# Altium footprint library Connector_USB.PcbLib: 76 footprints (part 3 of 5)
Each footprint in its own frame and in the unit in brackets; x right, y up, seen from the top. Pads: shape width x height; smd on the part's side, far side on the other; paste and mask are expansions set on the pad; w line width, h text height; cw(c..) or ccw(c..) is an arc to the next point about the centre after c.
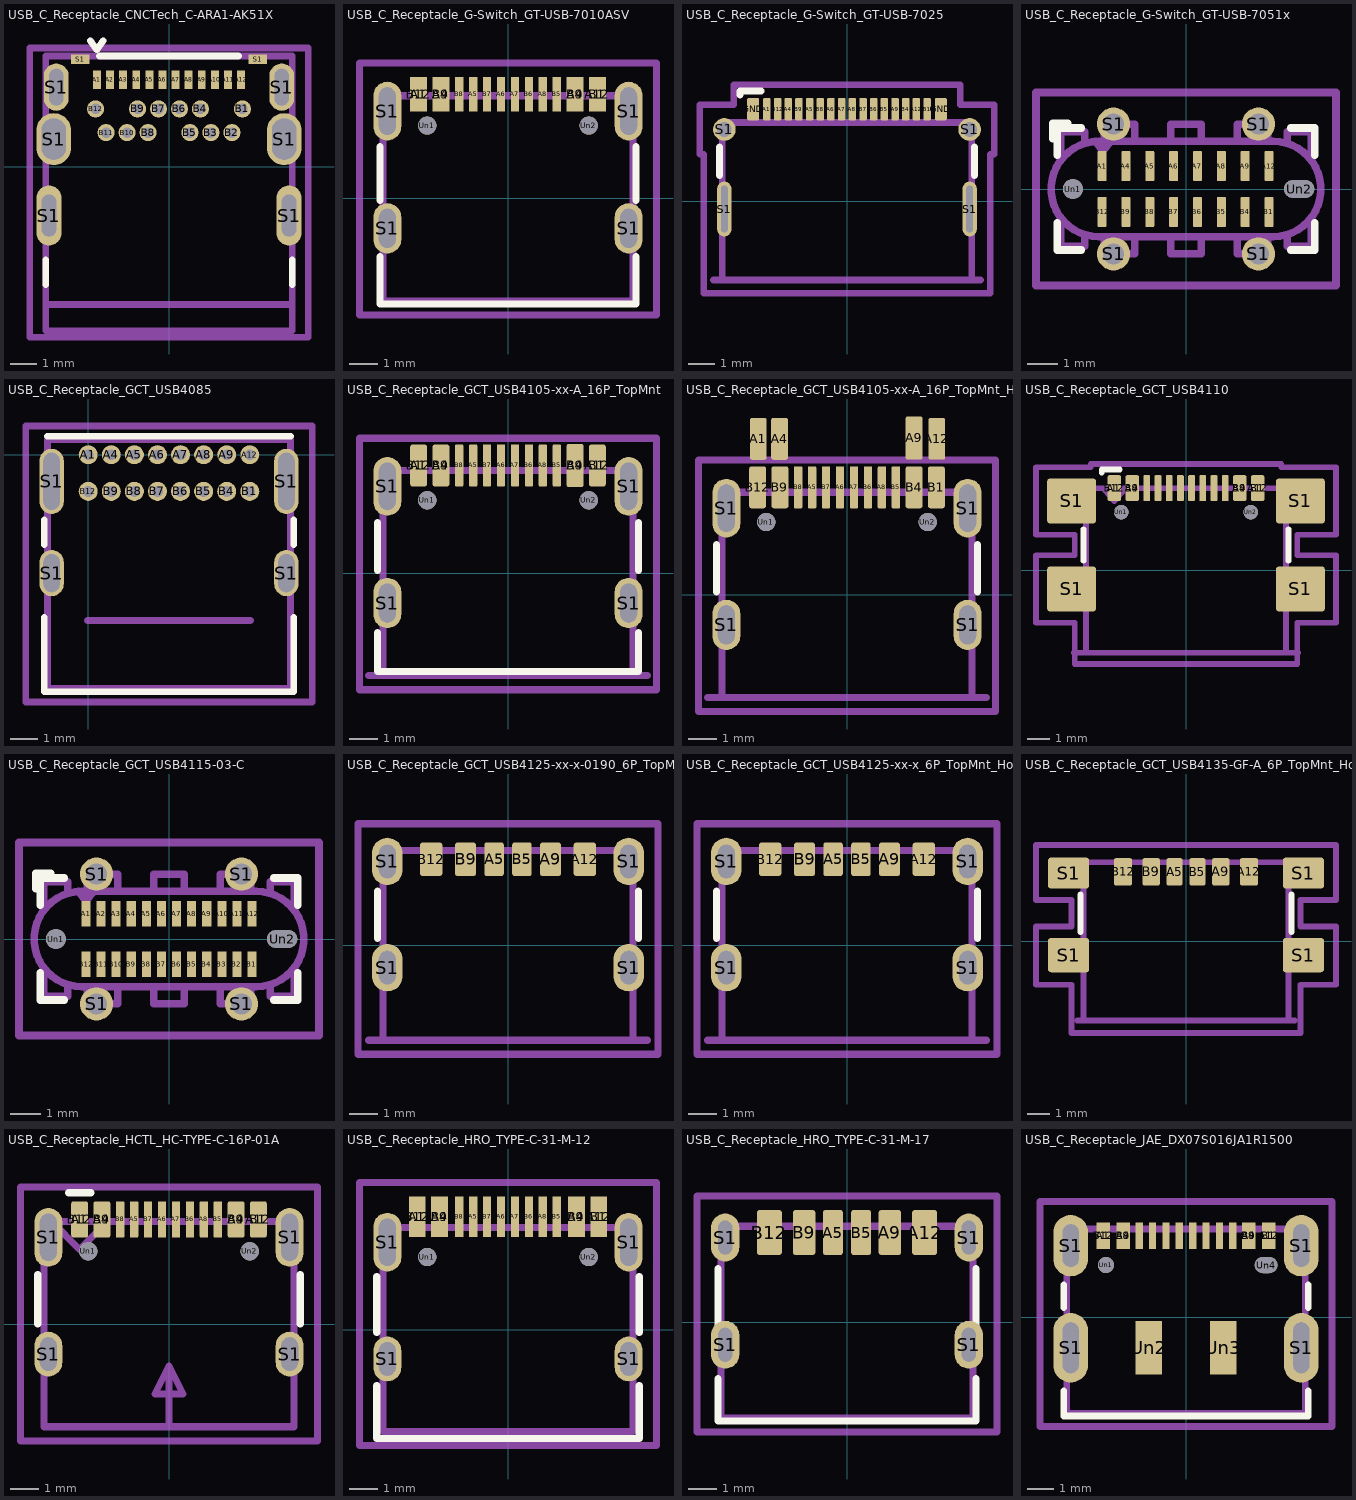
[diagram p2: the footprints below, top view; thin cyan lines are the x and y axes]

## USB_C_Receptacle_CNCTech_C-ARA1-AK51X [mm]
pads (32):
  rect 0.3x0.7 smd: A1(-2.75,3.31) A2(-2.25,3.31) A3(-1.75,3.31) A4(-1.25,3.31) A5(-0.75,3.31) A6(-0.25,3.31) A7(0.25,3.31) A8(0.75,3.31) A9(1.25,3.31) A10(1.75,3.31) A11(2.25,3.31) A12(2.75,3.31)
  round 0.65 hole 0.4: B1(2.8,2.2) B2(2.4,1.3) B3(1.6,1.3) B4(1.2,2.2) B5(0.8,1.3) B6(0.4,2.2) B7(-0.4,2.2) B8(-0.8,1.3) B9(-1.2,2.2) B10(-1.6,1.3) B11(-2.4,1.3) B12(-2.8,2.2)
  rrect100% 0.95x2.28 hole 1.6 slot 0.55 at 0 deg: S1(-4.575,-1.86) S1(4.575,-1.86)
  rrect100% 1.33x1.98 hole 1.58 slot 0.93 at 0 deg: S1(-4.39,1.05) S1(4.39,1.05)
  rrect100% 0.95x1.8 hole 1.4 slot 0.55 at 0 deg: S1(-4.295,3.03) S1(4.295,3.03)
  rect 0.7x0.35 smd: S1(-3.375,4.095) S1(3.375,4.095)
F.SilkS:
  lines w0.254: -4.7,-4.5 -4.7,-3.55 ; -3,4.8 -2.75,4.45 -2.5,4.8 ; -2.65,4.22 2.65,4.22 ; 4.7,-4.5 4.7,-3.55
Top Assembly:
  lines w0.254: -3,4.8 -2.75,4.45 -2.5,4.8 ; -4.7,-6.25 4.7,-6.25 4.7,4.22 -4.7,4.22 -4.7,-6.25
  text "'.Designator'" at -4.047,-1.84 h1
Top Courtyard:
  lines w0.254: -5.31,-6.5 5.31,-6.5 5.31,4.52 -5.31,4.52 -5.31,-6.5
Top Designator:
  text ".Designator" at -7.618,-1.358 h1.52
Dwgs.User:
  lines w0.254: -4.7,-5.25 4.7,-5.25
  text "PCB Edge" at -1.748,-5.273 h0.5

## USB_C_Receptacle_G-Switch_GT-USB-7010ASV [mm]
pads (22):
  rect 0.6x1.24 smd: A1(-3.2,3.725) A4(-2.4,3.725) A9(2.4,3.725) A12(3.2,3.725) B1(3.2,3.725) B4(2.4,3.725) B9(-2.4,3.725) B12(-3.2,3.725)
  rect 0.3x1.24 smd: A5(-1.25,3.725) A6(-0.25,3.725) A7(0.25,3.725) A8(1.25,3.725) B5(1.75,3.725) B6(0.75,3.725) B7(-0.75,3.725) B8(-1.75,3.725)
  rrect100% 1x1.8 hole 1.4 slot 0.6 at 0 deg: S1(-4.32,-1.075) S1(4.32,-1.075)
  rrect100% 1x2.1 hole 1.7 slot 0.6 at 0 deg: S1(-4.32,3.125) S1(4.32,3.125)
  round 0.65 hole 0.65: Un1(-2.89,2.605) Un2(2.89,2.605)
F.SilkS:
  lines w0.254: -4.58,-2.08 -4.58,-3.785 4.58,-3.785 4.58,-2.08 ; -4.58,-0.07 -4.58,1.85 ; 4.58,-0.07 4.58,1.85
Top Assembly:
  lines w0.254: -4.47,-3.675 4.47,-3.675 4.47,3.675 -4.47,3.675 -4.47,-3.675
  text "'.Designator'" at -4.047,-0.84 h1
Top Courtyard:
  lines w0.254: -5.32,-4.18 5.32,-4.18 5.32,4.85 -5.32,4.85 -5.32,-4.18
Top Designator:
  text ".Designator" at -7.618,-0.173 h1.52

## USB_C_Receptacle_G-Switch_GT-USB-7025 [mm]
pads (22):
  rrect25% 0.28x0.83 smd: A1(-3,3.45) A4(-2.2,3.45) A5(-1.4,3.45) A6(-0.6,3.45) A7(-0.2,3.45) A8(0.2,3.45) A9(1.8,3.45) A12(2.6,3.45) B1(3,3.45) B4(2.2,3.45) B5(1.4,3.45) B6(1,3.45) B7(0.6,3.45) B8(-1,3.45) B9(-1.8,3.45) B12(-2.6,3.45)
  rrect25% 0.45x0.83 smd: GND(-3.515,3.45) GND(3.515,3.45)
  rrect100% 0.55x2.05 hole 1.75 slot 0.25 at 0 deg: S1(-4.595,-0.29) S1(4.595,-0.29)
  round 0.85 hole 0.55: S1(-4.595,2.69) S1(4.595,2.69)
F.SilkS:
  lines w0.254: -4.78,0.97 -4.78,2.03 ; -4.01,3.98 -4.01,4.13 -3.21,4.13 ; 4.78,0.97 4.78,2.03
Top Assembly:
  lines w0.254: -4.67,-2.95 4.67,-2.95 4.67,2.95 -4.67,2.95 -4.67,-2.95
  text "'.Designator'" at -4.047,0.81 h1
Top Courtyard:
  lines w0.254: -5.52,1.76 -5.37,1.76 -5.37,-3.45 5.37,-3.45 5.37,1.76 5.52,1.76 5.52,3.62 4.24,3.62 4.24,4.37 -4.24,4.37 -4.24,3.62 -5.52,3.62 -5.52,1.76
Top Designator:
  text ".Designator" at -7.618,-0.048 h1.52
Dwgs.User:
  lines w0.254: -5,-2.95 5,-2.95
  text "PCB Edge" at -1.748,-2.783 h0.5

## USB_C_Receptacle_G-Switch_GT-USB-7051x [mm]
pads (22):
  rrect25% 0.3x1 smd: A1(-2.78,0.76) A4(-1.99,0.76) A5(-1.2,0.76) A6(-0.41,0.76) A7(0.38,0.76) A8(1.17,0.76) A9(1.96,0.76) A12(2.75,0.76) B1(2.75,-0.76) B4(1.96,-0.76) B5(1.17,-0.76) B6(0.38,-0.76) B7(-0.41,-0.76) B8(-1.2,-0.76) B9(-1.99,-0.76) B12(-2.78,-0.76)
  round 1.1 hole 0.7: S1(-2.4,-2.15) S1(-2.4,2.15) S1(2.4,-2.15) S1(2.4,2.15)
  round 0.66 hole 0.66: Un1(-3.75,0)
  rrect100% 1x0.58 hole 0.58 slot 1 at 0 deg: Un2(3.75,0)
F.SilkS:
  lines w0.254: -4.42,1.67 -4.42,2.17 -3.92,2.17 ; -4.27,-1.12 -4.27,-2.02 -3.47,-2.02 ; -4.27,1.12 -4.27,2.02 -3.47,2.02 ; 3.47,-2.02 4.27,-2.02 4.27,-1.12 ; 3.47,2.02 4.27,2.02 4.27,1.12
Top Assembly:
  lines w0.254: -4.15,-1 -4.15,-1.9 -3.35,-1.9 -3.35,-1.55 ; -4.15,1 -4.15,1.9 -3.35,1.9 -3.35,1.55 ; -3,1.58 -2.75,1.26 -2.5,1.58 ; -2.7,-1.6 -2.7,-2.15 -1.7,-2.15 -1.7,-1.6 ; -2.7,1.6 -2.7,2.15 -1.7,2.15 -1.7,1.6 ; -0.5,-1.6 -0.5,-2.15 0.5,-2.15 0.5,-1.6 ; -0.5,1.6 -0.5,2.15 0.5,2.15 0.5,1.6 ; 1.7,-1.6 1.7,-2.15 2.7,-2.15 2.7,-1.6 ; 1.7,1.6 1.7,2.15 2.7,2.15 2.7,1.6 ; 3.35,-1.55 3.35,-1.9 4.15,-1.9 4.15,-1 ; 3.35,1.55 3.35,1.9 4.15,1.9 4.15,1 ; -2.89,-1.58 cw(c-2.89,0) -2.89,1.58 2.89,1.58 cw(c2.89,0) 2.89,-1.58 -2.89,-1.58
  text "'.Designator'" at -4.047,-0.84 h1
Top Courtyard:
  lines w0.254: -4.97,-3.2 4.97,-3.2 4.97,3.2 -4.97,3.2 -4.97,-3.2
Top Designator:
  text ".Designator" at -7.618,-0.508 h1.52

## USB_C_Receptacle_GCT_USB4085 [mm]
pads (20):
  round 0.7 hole 0.4: A1(0,0) A4(0.85,0) A5(1.7,0) A6(2.55,0) A7(3.4,0) A8(4.25,0) A9(5.1,0) A12(5.95,0) B1(5.95,-1.35) B4(5.1,-1.35) B5(4.25,-1.35) B6(3.4,-1.35) B7(2.55,-1.35) B8(1.7,-1.35) B9(0.85,-1.35) B12(0,-1.35)
  rrect100% 0.9x1.7 hole 1.4 slot 0.6 at 0 deg: S1(-1.35,-4.36) S1(7.3,-4.36)
  rrect100% 0.9x2.4 hole 2.1 slot 0.6 at 0 deg: S1(-1.35,-0.98) S1(7.3,-0.98)
F.SilkS:
  lines w0.254: -1.62,-6 -1.62,-8.73 7.57,-8.73 7.57,-6 ; -1.62,-3.3 -1.62,-2.4 ; -1.5,0.68 7.45,0.68 ; 7.57,-3.3 7.57,-2.4
Top Assembly:
  lines w0.254: -0.025,-6.1 5.975,-6.1 ; -1.5,-8.61 7.45,-8.61 7.45,0.56 -1.5,0.56 -1.5,-8.61
  text "'.Designator'" at -1.072,-4.865 h1
Top Courtyard:
  lines w0.254: -2.3,-9.11 8.25,-9.11 8.25,1.06 -2.3,1.06 -2.3,-9.11
Top Designator:
  text ".Designator" at -4.643,-4.533 h1.52
Dwgs.User:
  text "PCB Edge" at 1.227,-6.533 h0.5

## USB_C_Receptacle_GCT_USB4105-xx-A_16P_TopMnt [mm]
pads (22):
  rrect25% 0.6x1.5 smd: A1(-3.2,3.85) A4(-2.4,3.85) A12(3.2,3.85) B1(3.2,3.85) B4(2.4,3.85) B9(-2.4,3.85) B12(-3.2,3.85)
  rrect25% 0.3x1.5 smd: A5(-1.25,3.85) A6(-0.25,3.85) A7(0.25,3.85) A8(1.25,3.85) B5(1.75,3.85) B6(0.75,3.85) B7(-0.75,3.85) B8(-1.75,3.85)
  rrect25% 0.6x1.55 smd: A9(2.4,3.85)
  rrect100% 1x1.8 hole 1.4 slot 0.6 at 0 deg: S1(-4.32,-1.075) S1(4.32,-1.075)
  rrect100% 1x2.1 hole 1.7 slot 0.6 at 0 deg: S1(-4.32,3.105) S1(4.32,3.105)
  round 0.65 hole 0.65: Un1(-2.89,2.605) Un2(2.89,2.605)
F.SilkS:
  lines w0.254: -4.67,-2.137 -4.67,-3.527 4.67,-3.527 ; -4.67,0.1 -4.67,1.8 ; 4.67,-3.5 4.67,-2.137 ; 4.67,0.1 4.67,1.8
Top Assembly:
  lines w0.254: -4.47,-3.675 4.47,-3.675 4.47,3.675 -4.47,3.675 -4.47,-3.675
Top Courtyard:
  lines w0.254: -5.32,-4.18 5.32,-4.18 5.32,4.826 -5.32,4.826 -5.32,-4.18
Top Designator:
  text ".Designator" at -3.434,-0.345 h1.52
Dwgs.User:
  lines w0.254: -5,-3.675 5,-3.675
  text "PCB Edge" at -1.748,-3.533 h0.5
3D body "USB_C_Receptacle_GCT_USB4105-xx-A_16P_TopMnt_Horizontal.step": height 3.31, standoff -0.95, extent -4.47,-3.675 4.47,4.105

## USB_C_Receptacle_GCT_USB4105-xx-A_16P_TopMnt_Horizontal [mm]
pads (22):
  rrect25% 0.6x1.5 smd: A1(-3.175,5.588) A4(-2.413,5.588) A12(3.217,5.588) B1(3.2,3.85) B4(2.4,3.85) B9(-2.4,3.85) B12(-3.2,3.85)
  rrect25% 0.3x1.5 smd: A5(-1.25,3.85) A6(-0.25,3.85) A7(0.25,3.85) A8(1.25,3.85) B5(1.75,3.85) B6(0.75,3.85) B7(-0.75,3.85) B8(-1.75,3.85)
  rrect25% 0.6x1.55 smd: A9(2.4,5.617)
  rrect100% 1x1.8 hole 1.4 slot 0.6 at 0 deg: S1(-4.32,-1.075) S1(4.32,-1.075)
  rrect100% 1x2.1 hole 1.7 slot 0.6 at 0 deg: S1(-4.32,3.105) S1(4.32,3.105)
  round 0.65 hole 0.65: Un1(-2.89,2.605) Un2(2.89,2.605)
F.SilkS:
  lines w0.254: -4.67,0.1 -4.67,1.8 ; 4.67,0.1 4.67,1.8
Top Assembly:
  lines w0.254: -4.47,-3.675 -4.47,3.675 4.47,3.675 4.47,-3.675 -4.47,-3.675
Top Courtyard:
  lines w0.254: -5.32,-4.18 -5.32,4.826 5.32,4.826 5.32,-4.18 -5.32,-4.18
Top Designator:
  text ".Designator" at -3.434,-0.345 h1.52
Dwgs.User:
  lines w0.254: -5,-3.675 5,-3.675
  text "PCB Edge" at -1.748,-3.533 h0.5
3D body "USB_C_Receptacle_GCT_USB4105-xx-A_16P_TopMnt_Horizontal.step": height 3.31, standoff -0.95, extent -4.47,-3.675 4.47,4.105

## USB_C_Receptacle_GCT_USB4110 [mm]
pads (22):
  rrect25% 0.6x1.15 smd: A1(-3.2,3.68) A4(-2.4,3.68) A9(2.4,3.68) A12(3.2,3.68) B1(3.2,3.68) B4(2.4,3.68) B9(-2.4,3.68) B12(-3.2,3.68)
  rrect25% 0.3x1.15 smd: A5(-1.25,3.68) A6(-0.25,3.68) A7(0.25,3.68) A8(1.25,3.68) B5(1.75,3.68) B6(0.75,3.68) B7(-0.75,3.68) B8(-1.75,3.68)
  rrect12% 2.18x2 smd: S1(-5.11,-0.825) S1(-5.11,3.105) S1(5.11,-0.825) S1(5.11,3.105)
  round 0.65 hole 0.65: Un1(-2.89,2.605) Un2(2.89,2.605)
F.SilkS:
  lines w0.254: -4.58,0.435 -4.58,1.845 ; -3.76,4.365 -3.76,4.515 -2.96,4.515 ; 4.58,0.435 4.58,1.845
Top Assembly:
  lines w0.254: -3.7,3.675 -3.2,3.095 -2.7,3.675 ; -4.47,-3.675 4.47,-3.675 4.47,3.675 -4.47,3.675 -4.47,-3.675
  text "'.Designator'" at -4.047,-0.84 h1
Top Courtyard:
  lines w0.254: -6.7,-2.33 -4.97,-2.33 -4.97,-4.18 4.97,-4.18 4.97,-2.33 6.7,-2.33 6.7,0.68 4.97,0.68 4.97,1.6 6.7,1.6 6.7,4.61 4.25,4.61 4.25,4.76 -4.25,4.76 -4.25,4.61 -6.7,4.61 -6.7,1.6 -4.97,1.6 -4.97,0.68 -6.7,0.68 -6.7,-2.33
Top Designator:
  text ".Designator" at -7.618,-0.218 h1.52
Dwgs.User:
  lines w0.254: -5,-3.675 5,-3.675
  text "PCB Edge" at -1.748,-3.508 h0.5

## USB_C_Receptacle_GCT_USB4115-03-C [mm]
pads (30):
  rect 0.3x0.85 smd: A1(-2.75,0.835) A2(-2.25,0.835) A3(-1.75,0.835) A4(-1.25,0.835) A5(-0.75,0.835) A6(-0.25,0.835) A7(0.25,0.835) A8(0.75,0.835) A9(1.25,0.835) A10(1.75,0.835) A11(2.25,0.835) A12(2.75,0.835) B1(2.75,-0.835) B2(2.25,-0.835) B3(1.75,-0.835) B4(1.25,-0.835) B5(0.75,-0.835) B6(0.25,-0.835) B7(-0.25,-0.835) B8(-0.75,-0.835) B9(-1.25,-0.835) B10(-1.75,-0.835) B11(-2.25,-0.835) B12(-2.75,-0.835)
  round 1.1 hole 0.7: S1(-2.4,-2.15) S1(-2.4,2.15) S1(2.4,-2.15) S1(2.4,2.15)
  round 0.66 hole 0.66: Un1(-3.75,0)
  rrect100% 1x0.58 hole 0.58 slot 1 at 0 deg: Un2(3.75,0)
F.SilkS:
  lines w0.254: -4.42,1.67 -4.42,2.17 -3.92,2.17 ; -4.27,-1.12 -4.27,-2.02 -3.47,-2.02 ; -4.27,1.12 -4.27,2.02 -3.47,2.02 ; 3.47,-2.02 4.27,-2.02 4.27,-1.12 ; 3.47,2.02 4.27,2.02 4.27,1.12
Top Assembly:
  lines w0.254: -4.15,-1 -4.15,-1.9 -3.35,-1.9 -3.35,-1.55 ; -4.15,1 -4.15,1.9 -3.35,1.9 -3.35,1.55 ; -3,1.58 -2.75,1.26 -2.5,1.58 ; -2.7,-1.6 -2.7,-2.15 -1.7,-2.15 -1.7,-1.6 ; -2.7,1.6 -2.7,2.15 -1.7,2.15 -1.7,1.6 ; -0.5,-1.6 -0.5,-2.15 0.5,-2.15 0.5,-1.6 ; -0.5,1.6 -0.5,2.15 0.5,2.15 0.5,1.6 ; 1.7,-1.6 1.7,-2.15 2.7,-2.15 2.7,-1.6 ; 1.7,1.6 1.7,2.15 2.7,2.15 2.7,1.6 ; 3.35,-1.55 3.35,-1.9 4.15,-1.9 4.15,-1 ; 3.35,1.55 3.35,1.9 4.15,1.9 4.15,1 ; -2.89,-1.58 cw(c-2.89,0) -2.89,1.58 2.89,1.58 cw(c2.89,0) 2.89,-1.58 -2.89,-1.58
  text "'.Designator'" at -4.047,-0.84 h1
Top Courtyard:
  lines w0.254: -4.97,-3.2 -4.97,3.2 4.97,3.2 4.97,-3.2 -4.97,-3.2
Top Designator:
  text ".Designator" at -7.618,-0.508 h1.52

## USB_C_Receptacle_GCT_USB4125-xx-x-0190_6P_TopMnt_Horizontal [mm]
pads (10):
  rrect25% 0.7x1.2 smd: A5(-0.5,3.08) B5(0.5,3.08)
  rrect25% 0.76x1.2 smd: A9(1.52,3.08) B9(-1.52,3.08)
  rrect25% 0.8x1.2 smd: A12(2.75,3.08) B12(-2.75,3.08)
  rrect100% 1.1x1.7 hole 1.2 slot 0.6 at 0 deg: S1(-4.32,-0.8) S1(-4.32,3) S1(4.32,-0.8) S1(4.32,3)
F.SilkS:
  lines w0.254: -4.67,0.25 -4.67,1.95 ; 4.67,0.25 4.67,1.95
Top Assembly:
  lines w0.254: -4.47,-3.4 4.47,-3.4 4.47,3.4 -4.47,3.4 -4.47,-3.4
  text "'.Designator'" at -4.047,-0.565 h1
Top Courtyard:
  lines w0.254: -5.37,-3.9 5.37,-3.9 5.37,4.35 -5.37,4.35 -5.37,-3.9
Top Designator:
  text ".Designator" at -7.618,-0.283 h1.52
Dwgs.User:
  lines w0.254: -5,-3.4 5,-3.4
  text "PCB Edge" at -1.748,-3.258 h0.5

## USB_C_Receptacle_GCT_USB4125-xx-x_6P_TopMnt_Horizontal [mm]
pads (10):
  rrect25% 0.7x1.2 smd: A5(-0.5,3.08) B5(0.5,3.08)
  rrect25% 0.76x1.2 smd: A9(1.52,3.08) B9(-1.52,3.08)
  rrect25% 0.8x1.2 smd: A12(2.75,3.08) B12(-2.75,3.08)
  rrect100% 1.1x1.7 hole 1.2 slot 0.6 at 0 deg: S1(-4.32,-0.8) S1(-4.32,3) S1(4.32,-0.8) S1(4.32,3)
F.SilkS:
  lines w0.254: -4.67,0.25 -4.67,1.95 ; 4.67,0.25 4.67,1.95
Top Assembly:
  lines w0.254: -4.47,-3.4 4.47,-3.4 4.47,3.4 -4.47,3.4 -4.47,-3.4
  text "'.Designator'" at -4.047,-0.565 h1
Top Courtyard:
  lines w0.254: -5.37,-3.9 5.37,-3.9 5.37,4.35 -5.37,4.35 -5.37,-3.9
Top Designator:
  text ".Designator" at -7.618,-0.283 h1.52
Dwgs.User:
  lines w0.254: -5,-3.4 5,-3.4
  text "PCB Edge" at -1.748,-3.258 h0.5

## USB_C_Receptacle_GCT_USB4135-GF-A_6P_TopMnt_Horizontal [mm]
pads (10):
  rrect25% 0.7x1.2 smd: A5(-0.5,3.033) B5(0.5,3.033)
  rrect25% 0.76x1.2 smd: A9(1.52,3.033) B9(-1.52,3.033)
  rrect25% 0.8x1.2 smd: A12(2.75,3.033) B12(-2.75,3.033)
  rrect17% 1.8x1.5 smd: S1(-5.125,-0.603) S1(5.125,-0.603)
  rrect19% 1.8x1.35 smd: S1(-5.125,2.977) S1(5.125,2.977)
F.SilkS:
  lines w0.254: -4.6,0.41 -4.6,2.04 ; 4.6,0.41 4.6,2.04
Top Assembly:
  lines w0.254: -4.47,-3.453 4.47,-3.453 4.47,3.453 -4.47,3.453 -4.47,-3.453
  text "'.Designator'" at -4.047,-0.84 h1
Top Courtyard:
  lines w0.254: -6.55,-1.9 -5,-1.9 -5,-4 5,-4 5,-1.9 6.55,-1.9 6.55,0.65 5,0.65 5,1.8 6.55,1.8 6.55,4.2 -6.55,4.2 -6.55,1.8 -5,1.8 -5,0.65 -6.55,0.65 -6.55,-1.9
Top Designator:
  text ".Designator" at -7.618,-0.408 h1.52
Dwgs.User:
  lines w0.254: -4.75,-3.453 4.75,-3.453
  text "PCB Edge" at -1.748,-3.333 h0.5

## USB_C_Receptacle_HCTL_HC-TYPE-C-16P-01A [mm]
pads (22):
  rrect25% 0.6x1.3 smd: A1(-3.2,3.745) A4(-2.4,3.745) A9(2.4,3.745) A12(3.2,3.745) B1(3.2,3.745) B4(2.4,3.745) B9(-2.4,3.745) B12(-3.2,3.745)
  rrect25% 0.3x1.3 smd: A5(-1.25,3.745) A6(-0.25,3.745) A7(0.25,3.745) A8(1.25,3.745) B5(1.75,3.745) B6(0.75,3.745) B7(-0.75,3.745) B8(-1.75,3.745)
  rrect100% 1x1.6 hole 1.2 slot 0.6 at 0 deg: S1(-4.32,-1.075) S1(4.32,-1.075)
  rrect100% 1x2.1 hole 1.7 slot 0.6 at 0 deg: S1(-4.32,3.105) S1(4.32,3.105)
  round 0.65 hole 0.65: Un1(-2.89,2.605) Un2(2.89,2.605)
F.SilkS:
  lines w0.254: -4.7,0 -4.7,1.78 ; -3.6,4.7 -2.8,4.7 ; 4.7,0 4.7,1.78
Top Assembly:
  lines w0.254: -4.2,3.675 -3.2,2.675 -2.2,3.675 ; -4.47,-3.675 4.47,-3.675 4.47,3.675 -4.47,3.675 -4.47,-3.675
  text "'.Designator'" at -4.047,-0.405 h1
Top Courtyard:
  lines w0.254: -5.32,-4.18 5.32,-4.18 5.32,4.9 -5.32,4.9 -5.32,-4.18
Top Designator:
  text ".Designator" at -7.618,-0.148 h1.52
Dwgs.User:
  lines w0.254: 0,-3.5 0,-1.5 ; 0,-1.5 0.5,-2.5 -0.5,-2.5 0,-1.5

## USB_C_Receptacle_HRO_TYPE-C-31-M-12 [mm]
pads (22):
  rect 0.6x1.45 smd: A1(-3.25,4.045) A4(-2.45,4.045) A9(2.45,4.045) A12(3.25,4.045) B1(3.25,4.045) B4(2.45,4.045) B9(-2.45,4.045) B12(-3.25,4.045)
  rect 0.3x1.45 smd: A5(-1.25,4.045) A6(-0.25,4.045) A7(0.25,4.045) A8(1.25,4.045) B5(1.75,4.045) B6(0.75,4.045) B7(-0.75,4.045) B8(-1.75,4.045)
  rrect100% 1x1.6 hole 1.2 slot 0.6 at 0 deg: S1(-4.32,-1.05) S1(4.32,-1.05)
  rrect100% 1x2.1 hole 1.7 slot 0.6 at 0 deg: S1(-4.32,3.13) S1(4.32,3.13)
  round 0.65 hole 0.65: Un1(-2.89,2.6) Un2(2.89,2.6)
F.SilkS:
  lines w0.254: -4.7,-2 -4.7,-3.9 4.7,-3.9 4.7,-2 ; -4.7,-0.1 -4.7,1.9 ; 4.7,-0.1 4.7,1.9
Top Assembly:
  lines w0.254: -4.47,-3.65 4.47,-3.65 4.47,3.65 -4.47,3.65 -4.47,-3.65
  text "'.Designator'" at -4.047,-0.84 h1
Top Courtyard:
  lines w0.254: -5.32,-4.15 5.32,-4.15 5.32,5.27 -5.32,5.27 -5.32,-4.15
Top Designator:
  text ".Designator" at -7.618,0.052 h1.52

## USB_C_Receptacle_HRO_TYPE-C-31-M-17 [mm]
pads (10):
  rrect25% 0.7x1.6 smd: A5(-0.5,3.18) B5(0.5,3.18)
  rrect25% 0.8x1.6 smd: A9(1.52,3.18) B9(-1.52,3.18)
  rrect25% 0.9x1.6 smd: A12(2.75,3.18) B12(-2.75,3.18)
  rrect100% 1x1.7 hole 1.2 slot 0.5 at 0 deg: S1(-4.32,-0.8) S1(-4.32,3) S1(4.32,-0.8) S1(4.32,3)
F.SilkS:
  lines w0.254: -4.58,-2 -4.58,-3.51 4.58,-3.51 4.58,-2 ; -4.58,-0.1 -4.58,1.9 ; 4.58,-0.1 4.58,1.9
Top Assembly:
  lines w0.254: -4.47,-3.4 4.47,-3.4 4.47,3.4 -4.47,3.4 -4.47,-3.4
  text "'.Designator'" at -4.047,-0.84 h1
Top Courtyard:
  lines w0.254: -5.32,-3.9 5.32,-3.9 5.32,4.48 -5.32,4.48 -5.32,-3.9
Top Designator:
  text ".Designator" at -7.618,-0.218 h1.52

## USB_C_Receptacle_JAE_DX07S016JA1R1500 [mm]
pads (24):
  rect 0.52x1 smd: A1(-3.1,3.05) A4(-2.35,3.05) A9(2.35,3.05) A12(3.1,3.05) B1(3.1,3.05) B4(2.35,3.05) B9(-2.35,3.05) B12(-3.1,3.05)
  rect 0.27x1 smd: A5(-1.75,3.05) A6(-0.25,3.05) A7(0.75,3.05) A8(1.75,3.05) B5(1.25,3.05) B6(0.25,3.05) B7(-0.75,3.05) B8(-1.25,3.05)
  rrect100% 1.3x2.6 hole 1.9 slot 0.6 at 0 deg: S1(-4.32,-1.15) S1(4.32,-1.15)
  rrect100% 1.3x2.3 hole 1.6 slot 0.6 at 0 deg: S1(-4.32,2.675) S1(4.32,2.675)
  round 0.6 hole 0.6: Un1(-3,1.95)
  rect 1x2 smd: Un2(-1.4,-1.15) Un3(1.4,-1.15)
  rrect100% 0.85x0.6 hole 0.6 slot 0.85 at 0 deg: Un4(3,1.95)
F.SilkS:
  lines w0.254: -4.58,-2.76 -4.58,-3.71 4.58,-3.71 4.58,-2.76 ; -4.58,0.36 -4.58,1.215 ; 4.58,0.36 4.58,1.215
Top Assembly:
  lines w0.254: -4.47,-3.6 4.47,-3.6 4.47,3.3 -4.47,3.3 -4.47,-3.6
  text "'.Designator'" at -4.047,-0.84 h1
Top Courtyard:
  lines w0.254: -5.47,-4.1 5.47,-4.1 5.47,4.33 -5.47,4.33 -5.47,-4.1
Top Designator:
  text ".Designator" at -7.618,-0.393 h1.52